# EAGLE library part AE-FXMA108 (library PartsForProto)
２電源双方向レベル変換モジュール 電源電圧:1.65V~5.5V (絶対最大定格:7.0V)
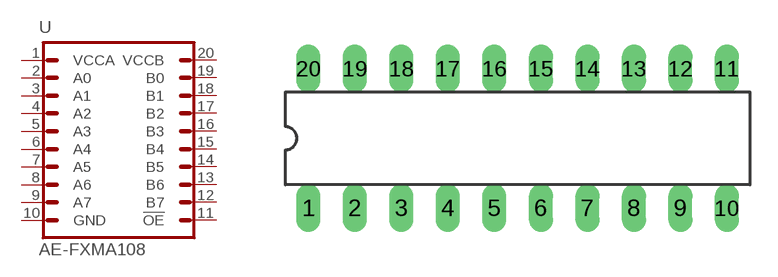
[diagram p26: symbol with the pads of DIL20; footprint DIL20]

Designator prefix U

## AE-FXMA108  [DIL20]
1  VCCA  pas
2  A0
3  A1
4  A2
5  A3
6  A4
7  A5
8  A6
9  A7
10  GND  pas
11  !OE!  pas
12  B7
13  B6
14  B5
15  B4
16  B3
17  B2
18  B1
19  B0
20  VCCB  pas

## Footprint DIL20 (pad centres in mm)
Dual In Line package type P
drill 0.813 long: 1 -10.16,-3.81; 2 -7.62,-3.81; 3 -5.08,-3.81; 4 -2.54,-3.81; 5 0,-3.81; 6 2.54,-3.81; 7 5.08,-3.81; 8 7.62,-3.81; 9 10.16,-3.81; 10 12.7,-3.81; 11 12.7,3.81; 12 10.16,3.81; 13 7.62,3.81; 14 5.08,3.81; 15 2.54,3.81; 16 0,3.81; 17 -2.54,3.81; 18 -5.08,3.81; 19 -7.62,3.81; 20 -10.16,3.81